# Altium schematic symbol library Resistor.SchLib: 12 symbols
Pins are listed as number, name and electrical type; pins without a type are passive.

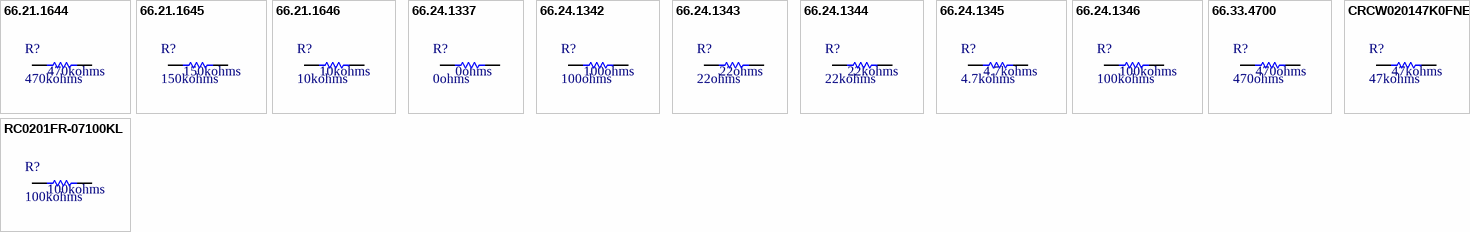
[diagram p0: symbols 66.21.1644 to RC0201FR-07100KL]

## 66.21.1644
designator R?, comment 470kohms
RESISTOR THICK FILM 470k OHMS 50mW 25V 1% SMD 0201; Category: Thick Film Resistors - SMD; Price: 1=, 10=, 100 =, 1000= (USD); Package / Case: 0201 (0603 metric); Tolerance: 1%; Power Rating: 50mW; Voltage Rating: 25V; Library Ref: Resistor; Resistor Type: Fixo; Size / Dimension: L x W x H; ComponentLink1Description: Mouser Link; ComponentLink2Description: Datasheet Link; Value: 470kohms
footprint R0201
pins: 1, 2

## 66.21.1645
designator R?, comment 150kohms
RESISTOR THICK FILM 150k OHMS 50mW 25V 1% SMD 0201; Category: Thick Film Resistors - SMD; Price: 1=, 10=, 100 =, 1000= (USD); Package / Case: 0201 (0603 metric); Tolerance: 1%; Power Rating: 50mW; Voltage Rating: 25V; Library Ref: Resistor; Resistor Type: Fixo; Size / Dimension: L x W x H; ComponentLink1Description: Mouser Link; ComponentLink2Description: Datasheet Link; Value: 150kohms
footprint R0201
pins: 1, 2

## 66.21.1646
designator R?, comment 10kohms
RESISTOR THICK FILM 10k OHMS 25V 50mW 1% SMD 0201; Category: Thick Film Resistors - SMD; Price: 1=, 10=, 100 =, 1000= (USD); Package / Case: 0201 (0603 metric); Tolerance: 1%; Power Rating: 50mW; Voltage Rating: 25V; Library Ref: Resistor; Resistor Type: Fixo; Size / Dimension: L x W x H; ComponentLink1Description: Mouser Link; ComponentLink2Description: Datasheet Link; Value: 10kohms
footprint R0201
pins: 1, 2

## 66.24.1337
designator R?, comment 0ohms
RESISTOR THICK FILM 0 OHMS 0,1W SMD 0603; Power Rating: 0,1W; Category: Thick Film Resistors - SMD; Price: 1=, 10=, 100 =, 1000= (USD); Package / Case: 0603 (1608 metric); Tolerance: -; Voltage Rating: -; Library Ref: Resistor; Resistor Type: Fixo; Size / Dimension: L x W x H; ComponentLink1Description: Mouser Link; ComponentLink2Description: Datasheet Link; Value: 0ohms
footprint R0603
pins: 1, 2

## 66.24.1342
designator R?, comment 100ohms
RESISTOR THICK FILM 100 OHMS 50mW 1% SMD 0201; Category: Thick Film Resistors - SMD; Price: 1=, 10=, 100 =, 1000= (USD); Package / Case: 0201 (0603 metric); Tolerance: 1%; Power Rating: 50mW; Voltage Rating: -; Library Ref: Resistor; Resistor Type: Fixo; Size / Dimension: L x W x H; ComponentLink1Description: Mouser Link; ComponentLink2Description: Datasheet Link; Value: 100ohms
footprint R0201
pins: 1, 2

## 66.24.1343
designator R?, comment 22ohms
RESISTOR THICK FILM 22 OHMS 50mW 1% SMD 0201; Category: Thick Film Resistors - SMD; Price: 1=, 10=, 100 =, 1000= (USD); Package / Case: 0201 (0603 metric); Tolerance: 1%; Power Rating: 50mW; Voltage Rating: -; Library Ref: Resistor; Resistor Type: Fixo; Size / Dimension: L x W x H; ComponentLink1Description: Mouser Link; ComponentLink2Description: Datasheet Link; Value: 22ohms
footprint R0201
pins: 1, 2

## 66.24.1344
designator R?, comment 22kohms
RESISTOR THICK FILM 22K OHMS 50mW 1% SMD 0201; Category: Thick Film Resistors - SMD; Price: 1=, 10=, 100 =, 1000= (USD); Package / Case: 0201 (0603 metric); Tolerance: 1%; Power Rating: 50mW; Voltage Rating: -; Library Ref: Resistor; Resistor Type: Fixo; Size / Dimension: L x W x H; ComponentLink1Description: Mouser Link; ComponentLink2Description: Datasheet Link; Value: 22kohms
footprint R0201
pins: 1, 2

## 66.24.1345
designator R?, comment 4.7kohms
RESISTOR THICK FILM 4K7 OHMS 50mW 1% SMD 0201; Category: Thick Film Resistors - SMD; Price: 1=, 10=, 100 =, 1000= (USD); Package / Case: 0201 (0603 metric); Tolerance: 1%; Power Rating: 50mW; Voltage Rating: -; Library Ref: Resistor; Resistor Type: Fixo; Size / Dimension: L x W x H; ComponentLink1Description: Mouser Link; ComponentLink2Description: Datasheet Link; Value: 4.7kohms
footprint R0201
pins: 1, 2

## 66.24.1346
designator R?, comment 100kohms
RESISTOR THICK FILM 100K OHMS 50mW 1% SMD 0201; Category: Thick Film Resistors - SMD; Price: 1=, 10=, 100 =, 1000= (USD); Package / Case: 0201 (0603 metric); Tolerance: 1%; Power Rating: 50mW; Voltage Rating: -; Library Ref: Resistor; Resistor Type: Fixo; Size / Dimension: L x W x H; ComponentLink1Description: Mouser Link; ComponentLink2Description: Datasheet Link; Value: 100kohms
footprint R0201
pins: 1, 2

## 66.33.4700
designator R?, comment 470ohms
RESISTOR 470 OHMS 0,125W 5% SMD 0805; Power Rating: 0,125W; Category: Resistors - SMD; Price: 1=, 10=, 100 =, 1000= (USD); Package / Case: 0805 (2012 mm); Tolerance: 5%; Voltage Rating: -; Library Ref: Resistor; Resistor Type: Fixo; Size / Dimension: L x W x H; ComponentLink1Description: Mouser Link; ComponentLink2Description: Datasheet Link; Value: 470ohms
footprint R0805
pins: 1, 2

## CRCW020147K0FNED
designator R?, comment 47kohms
RESISTOR THICK FILM 47k OHMS 30V 50mW 1% SMD 0201; Manufacturer: Vishay; Part Number: CRCW020147K0FNED; Temperature Coefficient: 200 PPM / C; Library Control - Checked Footprint: Yes; Library Control - Last Project that Used: SIBB; Library Control - Person that Checked Footprint: Stéfany; Supplier 1: Mouser; Category: Thick Film Resistors - SMD; Price: 1=, 10=, 100 =, 1000= (USD); Package / Case: 0201 (0603 metric); Operating Temperature: -55C ~ +155 C; Tolerance: 1%; Power Rating: 50mW; Voltage Rating: 30V; Library Ref: Resistor; Resistor Type: Fixo; Size / Dimension: 0.6 mm L x 0.23 mm W x 0.23 mm H; Library Control - Checked Schematic: Yes; Library Control - Last Update: 13/07/2022 - 14:50; Library Control - Person that Checked Schematic: Stéfany; Library Control - Person that did the Last Update Footprint: Stéfany; ComponentLink1Description: Mouser Link; ComponentLink1URL: https://www.mouser.com/ProductDetail/Vishay-Dale/CRCW020147K0FNED?qs=HP0efwKA%252BANqDf8lOxuVjA%3D%3D; ComponentLink2Description: Datasheet Link; ComponentLink2URL: https://www.mouser.com/datasheet/2/427/crcw0201e3-1761851.pdf; Value: 47kohms
footprint R0201
pins: 1, 2

## RC0201FR-07100KL
designator R?, comment 100kohms
RESISTOR THICK FILM 100k OHMS 50mW 25V 1% SMD 0201; Manufacturer: YAGEO; Part Number: RC0201FR-07100KL; Temperature Coefficient: 200 PPM / C; Library Control - Checked Footprint: Yes; Library Control - Last Project that Used: SIBB; Library Control - Person that Checked Footprint: Stéfany; Supplier 1: Mouser; Category: Thick Film Resistors - SMD; Price: 1=, 10=, 100 =, 1000= (USD); Package / Case: 0201 (0603 metric); Operating Temperature: -55 C ~ +125 C; Tolerance: 1%; Power Rating: 50mW; Voltage Rating: 25V; Library Ref: Resistor; Resistor Type: Fixo; Size / Dimension: L x W x H; Library Control - Checked Schematic: Yes; Library Control - Last Update: 13/07/2022 - 13:05; Library Control - Person that Checked Schematic: Stéfany; Library Control - Person that did the Last Update Footprint: Stéfany; Library Control - Person that did the Last Update Schematic: Stéfany; ComponentLink1Description: Mouser Link; ComponentLink1URL: https://www.mouser.com/ProductDetail/YAGEO/RC0201FR-07100KL?qs=H0f9D%252BN4ztJ6ZeeQPytEvw%3D%3D; ComponentLink2Description: Datasheet Link; ComponentLink2URL: https://www.mouser.com/datasheet/2/447/PYu_RC_Group_51_RoHS_L_10-1664068.pdf; Value: 100kohms
footprint R0201
pins: 1, 2